# EAGLE library part SN65HVD230 (library cancape)
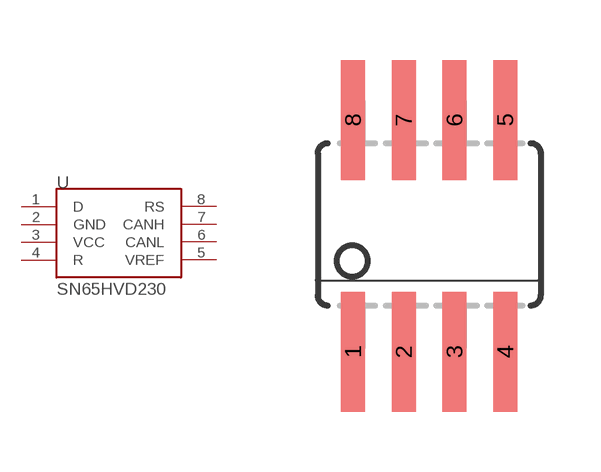
[diagram p0: symbol with the pads of SOIC8; footprint SOIC8]

Designator prefix -

## SN65HVD230  [SOIC8]
1  D
2  GND
3  VCC
4  R
5  VREF
6  CANL
7  CANH
8  RS

## Footprint SOIC8 (pad centres in mm)
SOIC-8/SO-8 This package is a bit wonky because it seems like different manufacturers make their devices in different widths? So the pads here are sized to be long enough to fit the SOIC-8 footprint here <http://glacier.lbl.gov/gtp/DOM/dataSheets/soic8_dim.pdf>, as well as the TI SO-8 footprint. Be sure to check the width of your component before using this package!!!!
smd 0.6 x 3: 1 0.5,-2.9; 2 1.77,-2.9; 3 3.04,-2.9; 4 4.31,-2.9; 5 4.31,2.9; 6 3.04,2.9; 7 1.77,2.9; 8 0.5,2.9